# Altium schematic symbol library SchLib_Main.SchLib: 425 symbols (part 4 of 11)
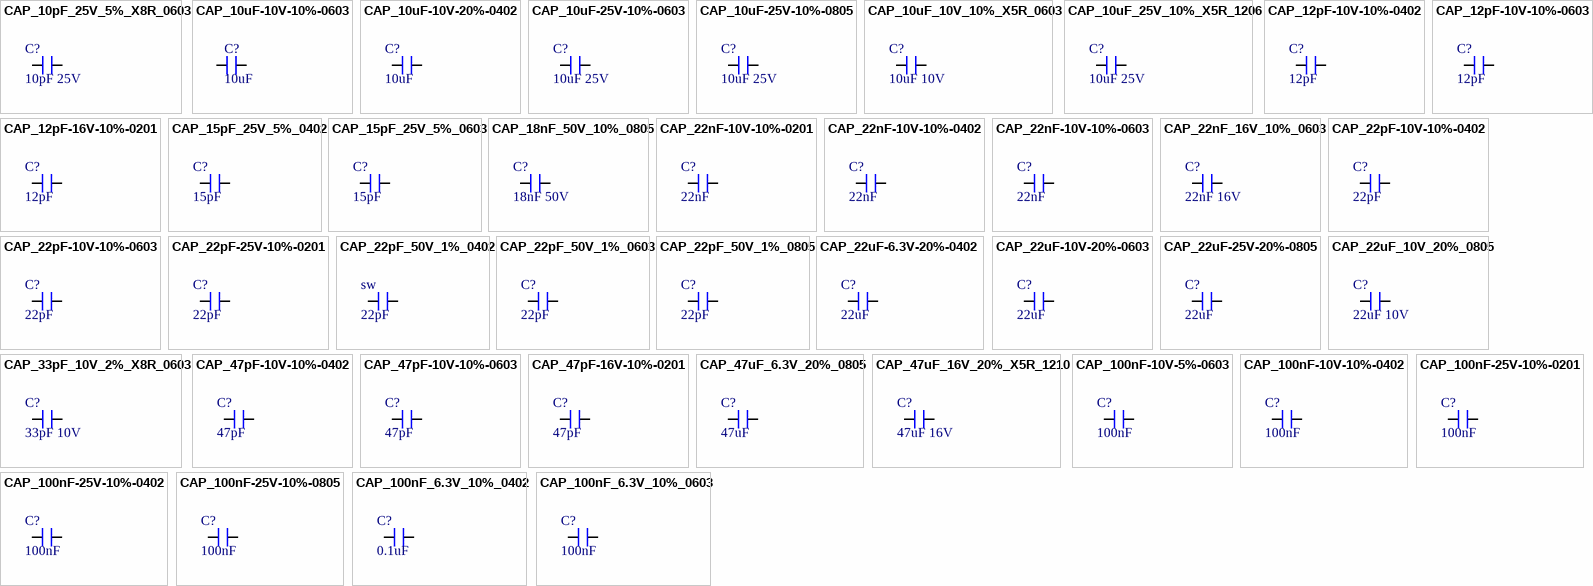
[diagram p19: symbols CAP_10pF_25V_5%_X8R_0603 to CAP_100nF_6.3V_10%_0603]

## CAP_100nF_6.3V_10%_0402
designator C?, comment 0.1uF
Multilayer Ceramic Capacitor, 0.1 uF, 6.3 V, ± 10%, X5R, 0402 [1005 Metric]; Manufacturer 1: KEMET; Manufacturer Part Number 1: C0402C104K9PACTU; Capacitance: 100nF; Voltage Rating (DC): 6.3V; Dissipation Factor: 5%; ComponentLink1URL: http://www.jameco.com/Jameco/Products/ProdDS/1564300.pdf?src-supplier=Jameco; ComponentLink1Description: http://www.jameco.com/Jameco/Products/ProdDS/1564300.pdf?src-supplier=Jameco; ComponentLink2URL: http://components.arrow.com/part/dataview/20550741S6158455N7429?src-supplier=Arrow+Electronics; ComponentLink2Description: http://components.arrow.com/part/dataview/20550741S6158455N7429?src-supplier=Arrow+Electronics; ComponentLink3URL: http://www.farnell.com/datasheets/2740633.pdf?src-supplier=Farnell; ComponentLink3Description: http://www.farnell.com/datasheets/2740633.pdf?src-supplier=Farnell; ComponentLink4URL: http://uk.rs-online.com/webdocs/1443/0900766b81443d87.pdf?src-supplier=Rs; ComponentLink4Description: http://uk.rs-online.com/webdocs/1443/0900766b81443d87.pdf?src-supplier=Rs; ComponentLink5URL: http://uk.rs-online.com/webdocs/1443/0900766b81443d88.pdf?src-supplier=Rs; ComponentLink5Description: http://uk.rs-online.com/webdocs/1443/0900766b81443d88.pdf?src-supplier=Rs; ComponentLink6URL: http://datasheet.octopart.com/C0402C104K9PACTU-KEMET-datasheet-153476653.pdf?src-supplier=Avnet; ComponentLink6Description: http://datasheet.octopart.com/C0402C104K9PACTU-KEMET-datasheet-153476653.pdf?src-supplier=Avnet; ComponentLink7URL: http://capacitoredge.kemet.com/capedge2/DataSheet?pn=C0402C104K9PAC7867&src-supplier=Avnet; ComponentLink7Description: http://capacitoredge.kemet.com/capedge2/DataSheet?pn=C0402C104K9PAC7867&src-supplier=Avnet; ComponentLink8URL: http://datasheet.octopart.com/C0402C104K9PACTU-KEMET-datasheet-153476653.pdf?src-supplier=Rs; ComponentLink8Description: http://datasheet.octopart.com/C0402C104K9PACTU-KEMET-datasheet-153476653.pdf?src-supplier=Rs; ComponentLink9URL: http://datasheet.octopart.com/C0402C104K9PACTU-KEMET-datasheet-153476653.pdf?src-supplier=Mouser; ComponentLink9Description: http://datasheet.octopart.com/C0402C104K9PACTU-KEMET-datasheet-153476653.pdf?src-supplier=Mouser; ComponentLink10URL: http://datasheet.octopart.com/C0402C104K9PACTU-KEMET-datasheet-153476653.pdf?src-supplier=Allied+Electronics; ComponentLink10Description: http://datasheet.octopart.com/C0402C104K9PACTU-KEMET-datasheet-153476653.pdf?src-supplier=Allied+Electronics; ComponentLink11URL: https://datasheet.octopart.com/C0402C104K9PACTU-Kemet-datasheet-27203266.pdf?src-supplier=Newark; ComponentLink11Description: https://datasheet.octopart.com/C0402C104K9PACTU-Kemet-datasheet-27203266.pdf?src-supplier=Newark; ComponentLink12URL: http://www.farnell.com/datasheets/2740633.pdf?src-supplier=Newark; ComponentLink12Description: http://www.farnell.com/datasheets/2740633.pdf?src-supplier=Newark; ComponentLink13URL: http://datasheet.octopart.com/C0402C104K9PACTU-KEMET-datasheet-153476653.pdf?src-supplier=Digi-Key; ComponentLink13Description: http://datasheet.octopart.com/C0402C104K9PACTU-KEMET-datasheet-153476653.pdf?src-supplier=Digi-Key; ComponentLink14URL: http://datasheet.octopart.com/C0402C104K9PACTU-KEMET-datasheet-153476653.pdf?src-supplier=Onlinecomponents.com; ComponentLink14Description: http://datasheet.octopart.com/C0402C104K9PACTU-KEMET-datasheet-153476653.pdf?src-supplier=Onlinecomponents.com; ComponentLink15URL: https://api.kemet.com/component-edge/download/datasheet/C0402C104K9PACTU.pdf?src-supplier=Digi-Key; ComponentLink15Description: https://api.kemet.com/component-edge/download/datasheet/C0402C104K9PACTU.pdf?src-supplier=Digi-Key; ComponentLink16URL: http://www.farnell.com/datasheets/1791935.pdf?src-supplier=Element14; ComponentLink16Description: http://www.farnell.com/datasheets/1791935.pdf?src-supplier=Element14; ComponentLink17URL: http://www.farnell.com/datasheets/2740633.pdf?src-supplier=Element14; ComponentLink17Description: http://www.farnell.com/datasheets/2740633.pdf?src-supplier=Element14; ComponentLink18URL: http://www.kemet.com/kemet/web/homepage/kechome.nsf/vapubfiles/KEM_C1006_X5R_SMD.pdf/$file/KEM_C1006_X5R_SMD.pdf?src-supplier=Element14; ComponentLink18Description: http://www.kemet.com/kemet/web/homepage/kechome.nsf/vapubfiles/KEM_C1006_X5R_SMD.pdf/$file/KEM_C1006_X5R_SMD.pdf?src-supplier=Element14; ComponentLink19URL: http://www.kemet.com/kemet/web/homepage/kechome.nsf/vapubfiles/KEM_C1006_X5R_SMD.pdf/$file/KEM_C1006_X5R_SMD.pdf?src-supplier=Farnell; ComponentLink19Description: http://www.kemet.com/kemet/web/homepage/kechome.nsf/vapubfiles/KEM_C1006_X5R_SMD.pdf/$file/KEM_C1006_X5R_SMD.pdf?src-supplier=Farnell; ComponentLink20URL: http://datasheet.octopart.com/C0402C104K9PACTU-KEMET-datasheet-153476653.pdf?src-supplier=Verical; ComponentLink20Description: http://datasheet.octopart.com/C0402C104K9PACTU-KEMET-datasheet-153476653.pdf?src-supplier=Verical; Supplier 1: Digi-Key; RoHS: Yes; Category: Ceramic Capacitors; Stock 1: 513561; Pricing 1: 1=0.1, 10=0.038, 50=0.0208, 100=0.0169, 500=0.0121, 1000=0.0095, 2500=0.00864, 5000=0.00795 (USD); Mount: Surface Mount,PCB; Case/Package: 0402; Dielectric Material: Ceramic; Case Code (Imperial): 0402; Case Code (Metric): 1005; Min Operating Temperature: -55°C; Max Operating Temperature: 85°C; Tolerance: 10%; Packaging: Tape and Reel; Dielectric: X5R; Package Quantity: 10000; Series: C0402C; Voltage Rating: 6.3V; Termination: SMD/SMT; Construction: Flat; Voltage: 6.3V; Length: 1mm; Width: 0.5mm; Height: 0.5mm; Depth: 0.5mm; Lead Pitch: 0.3mm; Radiation Hardening: No; Lead Free: Lead Free; Reach SVHC Compliant: No; RoHS Compliant: Yes; Supplier Part Number 1: 399-C0402C104K9PAC7867DKR-ND
footprint CAP_0402 (Chip Capacitor 0402, 2-Leads, Body, IPC Medium Density)
pins: 1, 2

## CAP_100nF_6.3V_10%_0603
designator C?, comment 100nF
Multilayer Ceramic Capacitor, 0.1 uF, 6.3 V, ± 10%, X7R, 0603 [1608 Metric]; Manufacturer: KEMET; Manufacturer Part Number: C0603C104K9RACTU; Voltage Rating: 6.3V; Dissipation Factor: 5%; Supplier 1: Mouser; RoHS: Yes; Category: Ceramic Capacitors; Stock 1: 222945; Pricing 1: 1=0.1, 10=0.086, 50=0.086, 100=0.044, 1000=0.027, 10000=0.021 (USD); Mount: Surface Mount; Case/Package: 0603; Case Code (Imperial): 0603; Case Code (Metric): 1608; Dielectric Material: Ceramic; Min Operating Temperature: -55°C; Max Operating Temperature: 125°C; Capacitance: 100nF; Tolerance: 10%; Dielectric: X7R; Package Quantity: 4000; Packaging: Tape and Reel; Voltage Rating (DC): 6.3V; Termination: SMD/SMT; Series: C; Construction: Flat; Length: 1.6mm; Width: 0.8mm; Height: 0.8mm; Thickness: 0.034inch; Depth: 0.8mm; Radiation Hardening: No; RoHS Compliant: Yes; ComponentLink1URL: https://datasheet.ciiva.com/13371/kem-c1002-x7r-smd-357932-13371879.pdf?src-supplier=Mouser; ComponentLink1Description: https://datasheet.ciiva.com/13371/kem-c1002-x7r-smd-357932-13371879.pdf?src-supplier=Mouser; Supplier 2: Digi-Key; Manufacturer 2: KEMET; Manufacturer Part Number 2: C0603C104K9RACTU; Stock 2: 54491; Pricing 2: 1=0.13, 10=0.096, 50=0.0544, 100=0.0451, 500=0.03162, 1000=0.02618 (USD); Supplier 3: Mouser; Manufacturer 3: KEMET; Manufacturer Part Number 3: C0603C104K9RACTU; Stock 3: 222663; Pricing 3: 1=0.13, 10=0.055, 50=0.055, 100=0.032, 1000=0.027, 10000=0.02 (USD); Supplier Part Number 3: 80-C0603C104K9R
footprint CAP_0603 (Chip Capacitor 0603, 2-Leads, Body 1.68x0.88mm, IPC Medium Density)
pins: 1, 2

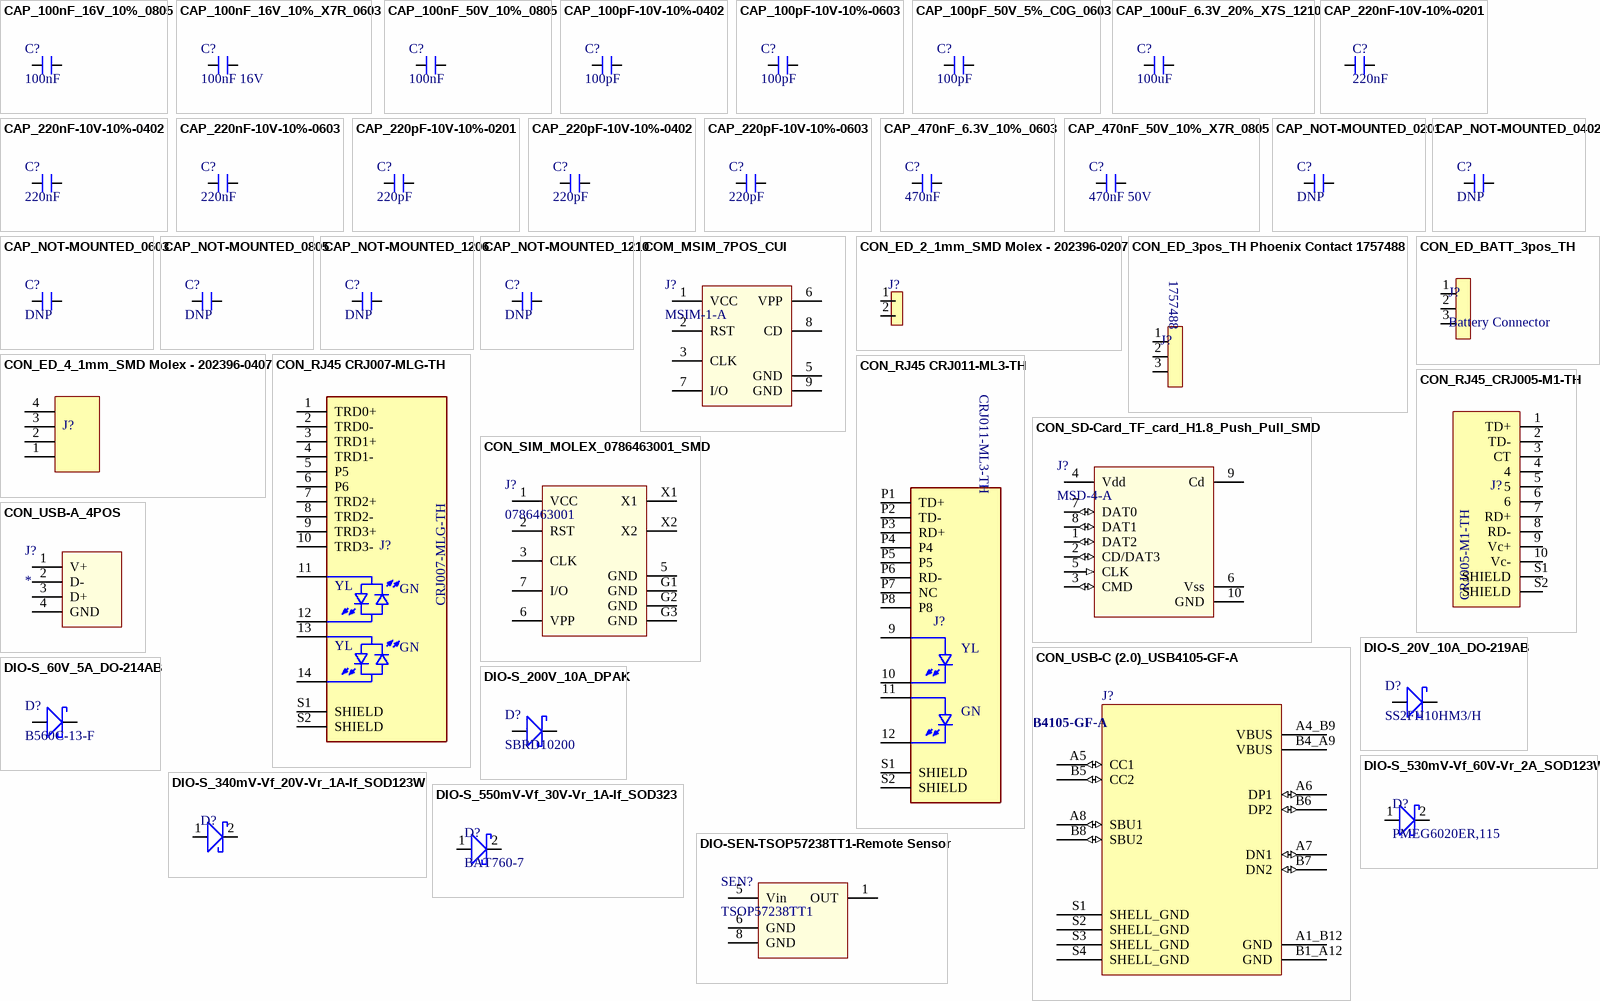
[diagram p2: symbols CAP_100nF_16V_10%_0805 to DIO-SEN-TSOP57238TT1-Remote Sensor]

## CAP_100nF_16V_10%_0805
designator C?, comment 100nF
Multilayer Ceramic Capacitor, 0.1 uF, 16 V, ± 10%, X7R, 0805 [2012 Metric]; Manufacturer: KEMET; Manufacturer Part Number: C0805C104K4RACTU; Voltage Rating: 16V; Supplier 1: Mouser; RoHS: Yes; Category: Ceramic Capacitors; Stock 1: 90803; Pricing 1: 1=0.15, 10=0.078, 50=0.078, 100=0.044, 1000=0.03, 10000=0.023 (USD); Mount: Surface Mount,PCB; Case/Package: 0805; Number of Pins: 2; Case Code (Imperial): 0805; Case Code (Metric): 2012; Contact Plating: Tin,Matte; Dielectric Material: Ceramic; Min Operating Temperature: -55°C; Max Operating Temperature: 125°C; Capacitance: 100nF; Packaging: Tape and Reel; Package Quantity: 4000; Tolerance: 10%; Voltage Rating (DC): 16V; Dielectric: X7R; Termination: SMD/SMT; Voltage: 16V; Series: SMD Comm X7R; Construction: Flat; Length: 2mm; Height: 0.9mm; Lead Pitch: 0.75mm; Depth: 1.25mm; Radiation Hardening: No; Reach SVHC Compliant: No; RoHS Compliant: Yes; ComponentLink1URL: https://datasheet.ciiva.com/46443/1851736-46443711.pdf?src-supplier=Element14; ComponentLink1Description: https://datasheet.ciiva.com/46443/1851736-46443711.pdf?src-supplier=Element14; ComponentLink2URL: https://datasheet.ciiva.com/46443/1851736-46443710.pdf?src-supplier=Element14; ComponentLink2Description: https://datasheet.ciiva.com/46443/1851736-46443710.pdf?src-supplier=Element14; Supplier 2: Digi-Key; Manufacturer 2: KEMET; Manufacturer Part Number 2: C0805C104K4RACTU; Stock 2: 179111; Pricing 2: 1=0.18, 10=0.13, 50=0.0736, 100=0.061, 500=0.04274, 1000=0.03539 (USD); Supplier 3: Mouser; Manufacturer 3: KEMET; Manufacturer Part Number 3: C0805C104K4RACTU; Stock 3: 60653; Pricing 3: 1=0.17, 10=0.078, 50=0.078, 100=0.045, 1000=0.032, 10000=0.023 (USD); Supplier Part Number 3: 80-C0805C104K4R
footprint CAP_0805 (Chip Capacitor, 2-Leads, Body 2.10x1.35mm, IPC Medium Density)
pins: 1, 2

## CAP_100nF_16V_10%_X7R_0603
designator C?, comment 100nF 16V
Ceramic Capacitor, Multilayer, Ceramic, 16V, 10% +Tol, 10% -Tol, X7R, 15% TC, 0.1uF, Surface Mount, 0603; Manufacturer: KEMET; Manufacturer Part Number: C0603C104K4RACTU; Multilayer: Yes; Supplier: Digi-Key; Supplier Part Number: 399-C0603C104K4RAC7867DKR-ND; RoHS: Yes; Category: Ceramic Capacitors; Stock: 507245; Pricing: 1=0.1, 10=0.069, 50=0.0394, 100=0.0305, 500=0.02298, 1000=0.01805 (USD); Mounting Technology: Surface Mount; Pins: 2; Dielectric Material: Ceramic; Package Shape: Rectangular; Case/Package: 0603; Terminal Finish: Nickel; Min Operating Temperature: -55°C; Max Operating Temperature: 125°C; JESD-609 Code: e3; Value: 100nF; Capacitor Type: Ceramic; Tolerance  (fill in as +-): 10%; Package Style: SMTMeter; Packaging: Tape and Reel; Tolerance (fill in as +-): 10%; Rated DC Voltage (URdc): 16V; Temperature Characteristics Code: X7R; Termination: Wraparound; Length: 1.6mm; Width: 0.8mm; Height: 0.8mm; Reach SVHC Compliant: Yes; RoHS Compliant: Yes; ComponentLink1URL: https://datasheet.ciiva.com:443/pdfs/VipMasterIC/IC/KEME/KEME-S-A0008991654/KEME-S-A0008991654-1.pdf?src-supplier=IHS+Markit; ComponentLink1Description: https://datasheet.ciiva.com:443/pdfs/VipMasterIC/IC/KEME/KEME-S-A0008991654/KEME-S-A0008991654-1.pdf?src-supplier=IHS+Markit; ComponentLink2URL: https://datasheet.ciiva.com/22749/kem-c1002-x7r-smd-22749657.pdf?src-supplier=Element14; ComponentLink2Description: https://datasheet.ciiva.com/22749/kem-c1002-x7r-smd-22749657.pdf?src-supplier=Element14; ComponentLink3URL: https://datasheet.ciiva.com/14589/70095383-14589014.pdf?src-supplier=Allied+Electronics; ComponentLink3Description: https://datasheet.ciiva.com/14589/70095383-14589014.pdf?src-supplier=Allied+Electronics; ComponentLink4URL: https://datasheet.ciiva.com/5413/kem-c1002-x7r-smd-5413791.pdf?src-supplier=Mouser; ComponentLink4Description: https://datasheet.ciiva.com/5413/kem-c1002-x7r-smd-5413791.pdf?src-supplier=Mouser
footprint CAP_0603
pins: 1, 2

## CAP_100nF_50V_10%_0805
designator C?, comment 100nF
SMD Comm X7R 0805 (2012Metric) Ceramic Capacitor 0.079Lx0.049W 2.00mmx1.25mm X7R ±10% 0.1muF; Manufacturer: KEMET; Manufacturer Part Number: C0805C104K5RAC7210; Voltage Rating: 50V; Supplier 1: Mouser; RoHS: Yes; Category: Ceramic Capacitors; Stock 1: 173866; Pricing 1: 1=0.13, 10=0.055, 50=0.055, 100=0.032, 1000=0.024, 10000=0.024 (USD); Mount: Surface Mount; Case/Package: 0805; Case Code (Metric): 2012; Case Code (Imperial): 0805; Dielectric Material: Ceramic; Min Operating Temperature: -55°C; Max Operating Temperature: 125°C; Tolerance: 10%; Capacitance: 100nF; Dielectric: X7R; Packaging: Tape and Reel; Package Quantity: 15000; Voltage Rating (DC): 50V; Termination: SMD/SMT; Series: C; Construction: Flat; Length: 2mm; Width: 0.049inch; Height: 0.9mm; Depth: 1.25mm; Lead Pitch: 0.75mm; Thickness: 0.035inch; Radiation Hardening: No; RoHS Compliant: Yes; ComponentLink1URL: http://www.farnell.com/datasheets/2750461.pdf?src-supplier=Farnell; ComponentLink1Description: http://www.farnell.com/datasheets/2750461.pdf?src-supplier=Farnell; ComponentLink2URL: http://www.mouser.com/ds/2/212/KEM_C1002_X7R_SMD-1102033.pdf?src-supplier=Mouser; ComponentLink2Description: http://www.mouser.com/ds/2/212/KEM_C1002_X7R_SMD-1102033.pdf?src-supplier=Mouser; ComponentLink3URL: http://components.arrow.com/part/dataview/1379060S8109168N7429?src-supplier=Arrow+Electronics; ComponentLink3Description: http://components.arrow.com/part/dataview/1379060S8109168N7429?src-supplier=Arrow+Electronics; ComponentLink4URL: http://capacitoredge.kemet.com/capedge2/DataSheet/Datasheet-C0805C104K5RAC7210.pdf?pn=C0805C104K5RAC7210&src-supplier=Avnet; ComponentLink4Description: http://capacitoredge.kemet.com/capedge2/DataSheet/Datasheet-C0805C104K5RAC7210.pdf?pn=C0805C104K5RAC7210&src-supplier=Avnet; ComponentLink5URL: http://www.farnell.com/datasheets/2750461.pdf?src-supplier=Newark; ComponentLink5Description: http://www.farnell.com/datasheets/2750461.pdf?src-supplier=Newark; ComponentLink6URL: http://www.farnell.com/datasheets/2750461.pdf?src-supplier=Element14; ComponentLink6Description: http://www.farnell.com/datasheets/2750461.pdf?src-supplier=Element14; ComponentLink7URL: https://api.kemet.com/component-edge/download/datasheet/C0805C104K5RAC7210.pdf?src-supplier=Digi-Key; ComponentLink7Description: https://api.kemet.com/component-edge/download/datasheet/C0805C104K5RAC7210.pdf?src-supplier=Digi-Key; ComponentLink8URL: https://www.verical.com/server-webapp/html/getDatasheet?partID=114317&src-supplier=Verical; ComponentLink8Description: https://www.verical.com/server-webapp/html/getDatasheet?partID=114317&src-supplier=Verical; ComponentLink9URL: http://www.kemet.com/kemet/web/homepage/kechome.nsf/weben/C4DA2DA1D1C9D3C3CA2570A50016092D/$file/KEM_C1002_X7R_SMD.pdf; ComponentLink9Description: http://www.kemet.com/kemet/web/homepage/kechome.nsf/weben/C4DA2DA1D1C9D3C3CA2570A50016092D/$file/KEM_C1002_X7R_SMD.pdf; ComponentLink10URL: https://datasheet.octopart.com/C0805C104K5RAC7210-KEMET-datasheet-130259742.pdf?src-supplier=TME; ComponentLink10Description: https://datasheet.octopart.com/C0805C104K5RAC7210-KEMET-datasheet-130259742.pdf?src-supplier=TME; ComponentLink11URL: https://datasheet.octopart.com/C0805C104K5RAC7210-KEMET-datasheet-37550250.pdf?src-supplier=Electro+Sonic; ComponentLink11Description: https://datasheet.octopart.com/C0805C104K5RAC7210-KEMET-datasheet-37550250.pdf?src-supplier=Electro+Sonic; Supplier 2: Digi-Key; Manufacturer 2: KEMET; Manufacturer Part Number 2: C0805C104K5RAC7210; Stock 2: 1684433; Pricing 2: 1=0.13, 10=0.092, 50=0.052, 100=0.0431, 500=0.03022, 1000=0.02502, 2500=0.02328, 5000=0.0213 (USD); Supplier 3: Mouser; Manufacturer 3: KEMET; Manufacturer Part Number 3: C0805C104K5RAC7210; Stock 3: 170881; Pricing 3: 1=0.13, 10=0.055, 50=0.055, 100=0.032, 1000=0.024, 10000=0.018 (USD); Supplier Part Number 3: 80-C0805C104K5R7210
footprint CAP_0805 (Chip Capacitor, 2-Leads, Body 2.10x1.35mm, IPC Medium Density)
pins: 1, 2

## CAP_100pF-10V-10%-0402
designator C?, comment 100pF
Cap Ceramic 100pF 10V X7R 10% SMD 0402 125°C Paper T/R; Manufacturer: KEMET; Manufacturer Part Number: C0402C101K8RAC7867; Case/Package: 0402; Supplier-1: Digikey; Supplier 1: Digi-Key; Manufacturer 1: KEMET; Manufacturer Part Number 1: C0402C101K8RAC7867; RoHS: Yes; Category: Ceramic Capacitors; Stock 1: 764202; Pricing 1: 1=0.15, 10=0.11, 50=0.0624, 100=0.0518, 500=0.0363, 1000=0.03006, 2500=0.02798, 5000=0.02559 (USD); Mount: Surface Mount; Case Code (Imperial): 0402; Case Code (Metric): 1005; Min Operating Temperature: -55°C; Max Operating Temperature: 125°C; Packaging: Cut Tape; Capacitance: 100pF; Tolerance: 10%; Voltage Rating: 10V; Series: C; RoHS Compliant: Yes; ComponentLink1URL: https://search.kemet.com/component-edge/download/datasheet/C0402C101K8RAC7867.pdf?src-supplier=Digi-Key; ComponentLink1Description: https://search.kemet.com/component-edge/download/datasheet/C0402C101K8RAC7867.pdf?src-supplier=Digi-Key; ComponentLink2URL: https://api.kemet.com/component-edge/download/datasheet/C0402C101K8RAC7867.pdf?src-supplier=Digi-Key; ComponentLink2Description: https://api.kemet.com/component-edge/download/datasheet/C0402C101K8RAC7867.pdf?src-supplier=Digi-Key; Supplier Part Number 1: 399-14866-1-ND
footprint CAP_0402 (Capacitor)
pins: 1, 2

## CAP_100pF-10V-10%-0603
designator C?, comment 100pF
Cap Ceramic 100pF 10V X7R 10% Pad SMD 0603 125C T/R; Manufacturer: AVX Corporation; Manufacturer Part Number: 0603ZC101KAT2A; Manufacturer 1: Kyocera AVX; Case/Package: 0603; Supplier-1: Digikey; Supplier 1: Mouser; Manufacturer Part Number 1: 0603ZC101KAT2A; RoHS: Yes; Category: Ceramic Capacitors; Stock 1: 11762; Pricing 1: 1=0.19, 10=0.087, 50=0.087, 100=0.05, 1000=0.04, 10000=0.035 (USD); ComponentLink1URL: https://datasheet.ciiva.com/5417/cx7r-5417999.pdf?src-supplier=Mouser; ComponentLink1Description: https://datasheet.ciiva.com/5417/cx7r-5417999.pdf?src-supplier=Mouser; ComponentLink2URL: https://datasheet.ciiva.com/204/cx7r-204551.pdf?src-supplier=Digi-Key; ComponentLink2Description: https://datasheet.ciiva.com/204/cx7r-204551.pdf?src-supplier=Digi-Key; Supplier Part Number 1: 581-0603ZC101KAT2A
footprint CAP_0603 (Capacitor)
pins: 1, 2

## CAP_100pF_50V_5%_C0G_0603
designator C?, comment 100pF
Ceramic Capacitor, Multilayer, Ceramic, 50V, 5% +Tol, 5% -Tol, C0G, 30ppm/Cel TC, 0.0001uF, Surface Mount, 0603; Manufacturer: KEMET; Manufacturer Part Number: C0603C101J5GACTU; Multilayer: Yes; Supplier: Digikey; Supplier Part Number: 399-C0603C101J5GAC7867CT-ND; RoHS: Yes; Category: Ceramic Capacitors; Stock: 200424; Pricing: 1=0.1, 10=0.073, 50=0.0418, 100=0.0325, 500=0.02442, 1000=0.01919 (USD); Mounting Technology: Surface Mount; Pins: 2; Dielectric Material: Ceramic; Package Shape: Rectangular; Case/Package: 0603; Terminal Finish: Nickel; Min Operating Temperature: -55°C; Max Operating Temperature: 125°C; JESD-609 Code: e3; Value: 100pF; Capacitor Type: Ceramic; Tolerance  (fill in as +-): 5%; Package Style: SMTMeter; Packaging: Tape and Reel; Tolerance (fill in as +-): 5%; Rated DC Voltage (URdc): 50V; Temperature Characteristics Code: C0G; Termination: Wraparound; Length: 1.6mm; Width: 0.8mm; Height: 0.8mm; Reach SVHC Compliant: Yes; RoHS Compliant: Yes; ComponentLink1URL: https://datasheet.ciiva.com:443/pdfs/VipMasterIC/IC/KEME/KEME-S-A0005605168/KEME-S-A0005605168-1.pdf?src-supplier=IHS+Markit; ComponentLink1Description: https://datasheet.ciiva.com:443/pdfs/VipMasterIC/IC/KEME/KEME-S-A0005605168/KEME-S-A0005605168-1.pdf?src-supplier=IHS+Markit; ComponentLink2URL: https://www.distrelec.biz/Web/Downloads/_t/ds/KEM_C1003_C0G_SMD_eng_tds.pdf?mime=application%2Fpdf&src-supplier=Distrelec; ComponentLink2Description: https://www.distrelec.biz/Web/Downloads/_t/ds/KEM_C1003_C0G_SMD_eng_tds.pdf?mime=application%2Fpdf&src-supplier=Distrelec; ComponentLink3URL: http://www.farnell.com/datasheets/2740958.pdf?src-supplier=Farnell; ComponentLink3Description: http://www.farnell.com/datasheets/2740958.pdf?src-supplier=Farnell; ComponentLink4URL: http://uk.rs-online.com/webdocs/1528/0900766b81528c98.pdf?src-supplier=Rs; ComponentLink4Description: http://uk.rs-online.com/webdocs/1528/0900766b81528c98.pdf?src-supplier=Rs
footprint CAP_0603
pins: 1, 2

## CAP_100uF_6.3V_20%_X7S_1210
designator C?, comment 100uF
Ceramic Capacitor, Multilayer, Ceramic, 6.3V, 20% +Tol, 20% -Tol, X7S, 22% TC, 100uF, Surface Mount, 1210; Manufacturer: Murata; Manufacturer Part Number: GRM32EC70J107ME15K; Supplier: Mouser; Supplier Part Number: 81-GRM32EC70J107ME5K; RoHS: No; Category: Ceramic Capacitors; Stock: 18465; Pricing: 1=0.61, 10=0.339, 50=0.339, 100=0.275, 1000=0.186, 10000=0.15 (USD); RoHS Compliant: Yes; ComponentLink1URL: https://datasheet.octopart.com/GRM32EC70J107ME15K-Murata-datasheet-149523525.pdf?src-supplier=Newark; ComponentLink1Description: https://datasheet.octopart.com/GRM32EC70J107ME15K-Murata-datasheet-149523525.pdf?src-supplier=Newark; ComponentLink2URL: https://datasheet.octopart.com/GRM32EC70J107ME15K-Murata-datasheet-165579666.pdf?src-supplier=TME; ComponentLink2Description: https://datasheet.octopart.com/GRM32EC70J107ME15K-Murata-datasheet-165579666.pdf?src-supplier=TME
footprint CAP_1210
pins: 1, 2

## CAP_220nF-10V-10%-0201
designator C?, comment 220nF
Multilayer Ceramic Capacitor, 0.22 uF, 10 V, ± 10%, X5R, 0201 [0603 Metric]; Manufacturer: Samsung Electro-Mechanics; Manufacturer Part Number: CL03A224KP3NNNC; Manufacturer 1: Samsung; Case/Package: 0201; Supplier-1: Digikey; Supplier 1: Digi-Key; Manufacturer Part Number 1: CL03A224KP3NNNC; RoHS: Yes; Category: Ceramic Capacitors; Stock 1: 467305; Pricing 1: 1=0.11, 10=0.075, 50=0.0428, 100=0.0355, 500=0.02486, 1000=0.02058, 2500=0.01916, 5000=0.01752 (USD); ComponentLink1URL: https://datasheet.ciiva.com/25728/cl03a224kp3nnnc-25728952.pdf?src-supplier=Digi-Key; ComponentLink1Description: https://datasheet.ciiva.com/25728/cl03a224kp3nnnc-25728952.pdf?src-supplier=Digi-Key; ComponentLink2URL: https://datasheet.ciiva.com/26920/getdatasheetpartid-756454-26920164.pdf?src-supplier=Verical; ComponentLink2Description: https://datasheet.ciiva.com/26920/getdatasheetpartid-756454-26920164.pdf?src-supplier=Verical; Supplier Part Number 1: 1276-1331-1-ND
footprint CAP_0201
pins: 1, 2

## CAP_220nF-10V-10%-0402
designator C?, comment 220nF
Multilayer Ceramic Capacitor, 0.22 uF, 10 V, ± 10%, X7R, 0402 [1005 Metric]; Manufacturer: Samsung Electro-Mechanics; Manufacturer Part Number: CL05B224KP5NNNC; Manufacturer 1: Samsung; Case/Package: 0402; Supplier-1: Digikey; Supplier 1: Digi-Key; Manufacturer Part Number 1: CL05B224KP5NNNC; RoHS: Yes; Category: Ceramic Capacitors; Stock 1: 1830060; Pricing 1: 1=0.1, 10=0.037, 50=0.0204, 100=0.0166, 500=0.01188, 1000=0.00933, 2500=0.00848, 5000=0.00781 (USD); ComponentLink1URL: https://datasheet.ciiva.com/25733/cl05b224kp5nnnc-25733649.pdf?src-supplier=Digi-Key; ComponentLink1Description: https://datasheet.ciiva.com/25733/cl05b224kp5nnnc-25733649.pdf?src-supplier=Digi-Key; ComponentLink2URL: https://datasheet.ciiva.com/26838/getdatasheetpartid-455373-26838229.pdf?src-supplier=Verical; ComponentLink2Description: https://datasheet.ciiva.com/26838/getdatasheetpartid-455373-26838229.pdf?src-supplier=Verical; Supplier Part Number 1: 1276-1539-1-ND
footprint CAP_0402 (Capacitor)
pins: 1, 2

## CAP_220nF-10V-10%-0603
designator C?, comment 220nF
Cap Ceramic 0.22uF 10V X7R 10% SMD 0603 125C T/R; Manufacturer: Yageo; Manufacturer Part Number: CC0603KRX7R6BB224; Case/Package: 0603; Supplier-1: Digikey; Supplier 1: Digi-Key; Manufacturer 1: Yageo; Manufacturer Part Number 1: CC0603KRX7R6BB224; RoHS: Yes; Category: Ceramic Capacitors; Stock 1: 40426; Pricing 1: 1=0.1, 10=0.061, 50=0.0334, 100=0.0272, 500=0.01944, 1000=0.01528 (USD); ComponentLink1URL: https://datasheet.ciiva.com/11786/0900766b80ce67ed-11786433.pdf?src-supplier=Rs; ComponentLink1Description: https://datasheet.ciiva.com/11786/0900766b80ce67ed-11786433.pdf?src-supplier=Rs; ComponentLink2URL: https://datasheet.ciiva.com/15189/getdatasheetpartid-93657-15189159.pdf?src-supplier=Verical; ComponentLink2Description: https://datasheet.ciiva.com/15189/getdatasheetpartid-93657-15189159.pdf?src-supplier=Verical; ComponentLink3URL: https://datasheet.ciiva.com/144/mlccorderingcode-144664.pdf?src-supplier=Digi-Key; ComponentLink3Description: https://datasheet.ciiva.com/144/mlccorderingcode-144664.pdf?src-supplier=Digi-Key; ComponentLink4URL: https://datasheet.ciiva.com/144/mlccorderingcode-144665.pdf?src-supplier=Digi-Key; ComponentLink4Description: https://datasheet.ciiva.com/144/mlccorderingcode-144665.pdf?src-supplier=Digi-Key; ComponentLink5URL: https://datasheet.ciiva.com/144/mlccorderingcode-144666.pdf?src-supplier=Digi-Key; ComponentLink5Description: https://datasheet.ciiva.com/144/mlccorderingcode-144666.pdf?src-supplier=Digi-Key; ComponentLink6URL: https://datasheet.ciiva.com/11464/upy-gphc-x7r-6-3v-to-50v-8-11464734.pdf?src-supplier=Avnet; ComponentLink6Description: https://datasheet.ciiva.com/11464/upy-gphc-x7r-6-3v-to-50v-8-11464734.pdf?src-supplier=Avnet; ComponentLink7URL: https://datasheet.ciiva.com/8033/1489800-8033791.pdf?src-supplier=Element14; ComponentLink7Description: https://datasheet.ciiva.com/8033/1489800-8033791.pdf?src-supplier=Element14; ComponentLink8URL: https://datasheet.ciiva.com/7978/1489800-7978173.pdf?src-supplier=Element14; ComponentLink8Description: https://datasheet.ciiva.com/7978/1489800-7978173.pdf?src-supplier=Element14; Supplier Part Number 1: 311-1346-1-ND
footprint CAP_0603 (Capacitor)
pins: 1, 2

## CAP_220pF-10V-10%-0201
designator C?, comment 220pF
Cap Ceramic 220pF 10V X7R 10% SMD 0402 125°C Paper T/R; Manufacturer: KEMET; Manufacturer Part Number: C0402C221K8RAC7867; Case/Package: 0201; Supplier-1: Digikey; Supplier 1: Digi-Key; Manufacturer 1: KEMET; Manufacturer Part Number 1: C0402C221K8RAC7867; RoHS: Yes; Category: Ceramic Capacitors; Stock 1: 3931; Pricing 1: 1=0.32, 10=0.222, 50=0.1556, 100=0.1333, 500=0.1, 1000=0.08445, 2500=0.08001, 5000=0.07556 (USD); ComponentLink1URL: https://api.kemet.com/component-edge/download/datasheet/C0402C221K8RACTU.pdf?src-supplier=Digi-Key; ComponentLink1Description: https://api.kemet.com/component-edge/download/datasheet/C0402C221K8RACTU.pdf?src-supplier=Digi-Key; ComponentLink2URL: http://capacitoredge.kemet.com/capedge2/DataSheet?pn=C0402C221K8RAC7867; ComponentLink2Description: http://capacitoredge.kemet.com/capedge2/DataSheet?pn=C0402C221K8RAC7867; Supplier Part Number 1: 399-14432-1-ND
footprint CAP_0201
pins: 1, 2

## CAP_220pF-10V-10%-0402
designator C?, comment 220pF
Cap Ceramic 220pF 10V X7R 10% SMD 0402 125°C Paper T/R; Manufacturer: KEMET; Manufacturer Part Number: C0402C221K8RAC7867; Case/Package: 0402; Supplier-1: Digikey; Supplier 1: Digi-Key; Manufacturer 1: KEMET; Manufacturer Part Number 1: C0402C221K8RAC7867; RoHS: Yes; Category: Ceramic Capacitors; Stock 1: 3931; Pricing 1: 1=0.32, 10=0.222, 50=0.1556, 100=0.1333, 500=0.1, 1000=0.08445, 2500=0.08001, 5000=0.07556 (USD); ComponentLink1URL: https://api.kemet.com/component-edge/download/datasheet/C0402C221K8RACTU.pdf?src-supplier=Digi-Key; ComponentLink1Description: https://api.kemet.com/component-edge/download/datasheet/C0402C221K8RACTU.pdf?src-supplier=Digi-Key; ComponentLink2URL: http://capacitoredge.kemet.com/capedge2/DataSheet?pn=C0402C221K8RAC7867; ComponentLink2Description: http://capacitoredge.kemet.com/capedge2/DataSheet?pn=C0402C221K8RAC7867; Supplier Part Number 1: 399-14432-1-ND
footprint CAP_0402 (Capacitor)
pins: 1, 2

## CAP_220pF-10V-10%-0603
designator C?, comment 220pF
Cap Ceramic 220pF 10V X7R 10% SMD 0603 125°C Paper T/R; Manufacturer: KEMET; Manufacturer Part Number: C0603C221K8RAC7867; Case/Package: 0603; Supplier-1: Digikey; Supplier 1: Digi-Key; Manufacturer 1: KEMET; Manufacturer Part Number 1: C0603C221K8RAC7867; RoHS: Yes; Category: Ceramic Capacitors; Stock 1: 8819; Pricing 1: 1=0.27, 10=0.187, 50=0.1248, 100=0.1061, 500=0.07488, 1000=0.06552 (USD); Mount: Surface Mount; Dielectric Material: Ceramic; Min Operating Temperature: -55°C; Max Operating Temperature: 125°C; Capacitance: 220pF; Tolerance: 10%; Dielectric: X7R; Voltage Rating (DC): 10V; Series: SMD Comm X7R; Voltage Rating: 10V; Construction: Flat; Length: 1.6mm; Height: 0.8mm; Depth: 0.8mm; Radiation Hardening: No; RoHS Compliant: Yes; ComponentLink1URL: https://api.kemet.com/component-edge/download/datasheet/C0603C221K8RACTU.pdf?src-supplier=Digi-Key; ComponentLink1Description: https://api.kemet.com/component-edge/download/datasheet/C0603C221K8RACTU.pdf?src-supplier=Digi-Key; ComponentLink2URL: http://capacitoredge.kemet.com/capedge2/DataSheet?pn=C0603C221K8RACTU&src-supplier=Avnet; ComponentLink2Description: http://capacitoredge.kemet.com/capedge2/DataSheet?pn=C0603C221K8RACTU&src-supplier=Avnet; ComponentLink3URL: http://capacitoredge.kemet.com/capedge2/DataSheet?pn=C0603C221K8RACTU; ComponentLink3Description: http://capacitoredge.kemet.com/capedge2/DataSheet?pn=C0603C221K8RACTU; Supplier Part Number 1: 399-15379-1-ND
footprint CAP_0603 (Capacitor)
pins: 1, 2

## CAP_470nF_6.3V_10%_0603
designator C?, comment 470nF
Multilayer Ceramic Capacitor, 0.47 uF, 6.3 V, ± 10%, X5R, 0603 [1608 Metric]; Manufacturer: KEMET; Manufacturer Part Number: C0603C474K9PACTU; Voltage Rating: 6.3V; Dissipation Factor: 5%; Supplier 1: Mouser; RoHS: Yes; Category: Ceramic Capacitors; Stock 1: 21236; Pricing 1: 1=0.16, 10=0.094, 50=0.094, 100=0.055, 1000=0.034, 10000=0.022 (USD); Mount: Surface Mount; Case/Package: 0603; Case Code (Imperial): 0603; Case Code (Metric): 1608; Dielectric Material: Ceramic; Min Operating Temperature: -55°C; Max Operating Temperature: 85°C; Capacitance: 470nF; Tolerance: 10%; Dielectric: X5R; Package Quantity: 1; Packaging: Tape and Reel; Voltage Rating (DC): 6.3V; Termination: SMD/SMT; Series: C; Construction: Flat; Length: 1.6mm; Width: 0.031inch; Height: 0.8mm; Lead Pitch: 0.7mm; Thickness: 0.034inch; Depth: 0.8mm; Lead Free: Lead Free; RoHS Compliant: Yes; ComponentLink1URL: http://www.farnell.com/datasheets/2748219.pdf?src-supplier=Farnell; ComponentLink1Description: http://www.farnell.com/datasheets/2748219.pdf?src-supplier=Farnell; ComponentLink2URL: http://www.mouser.com/ds/2/212/KEM_C1006_X5R_SMD-1103249.pdf?src-supplier=Mouser; ComponentLink2Description: http://www.mouser.com/ds/2/212/KEM_C1006_X5R_SMD-1103249.pdf?src-supplier=Mouser; ComponentLink3URL: http://components.arrow.com/part/dataview/40911673S6836922N7429?src-supplier=Arrow+Electronics; ComponentLink3Description: http://components.arrow.com/part/dataview/40911673S6836922N7429?src-supplier=Arrow+Electronics; ComponentLink4URL: http://www.farnell.com/datasheets/2748219.pdf?src-supplier=Newark; ComponentLink4Description: http://www.farnell.com/datasheets/2748219.pdf?src-supplier=Newark; ComponentLink5URL: https://datasheet.octopart.com/C0603C474K9PACTU-KEMET-datasheet-83561846.pdf?src-supplier=Newark; ComponentLink5Description: https://datasheet.octopart.com/C0603C474K9PACTU-KEMET-datasheet-83561846.pdf?src-supplier=Newark; ComponentLink6URL: https://api.kemet.com/component-edge/download/datasheet/C0603C474K9PACTU.pdf?src-supplier=Digi-Key; ComponentLink6Description: https://api.kemet.com/component-edge/download/datasheet/C0603C474K9PACTU.pdf?src-supplier=Digi-Key; ComponentLink7URL: https://datasheet.octopart.com/C0603C474K9PACTU-Kemet-datasheet-62307647.pdf?src-supplier=Element14; ComponentLink7Description: https://datasheet.octopart.com/C0603C474K9PACTU-Kemet-datasheet-62307647.pdf?src-supplier=Element14; ComponentLink8URL: https://datasheet.octopart.com/C0603C474K9PACTU-KEMET-datasheet-149522163.pdf?src-supplier=Farnell; ComponentLink8Description: https://datasheet.octopart.com/C0603C474K9PACTU-KEMET-datasheet-149522163.pdf?src-supplier=Farnell; ComponentLink9URL: https://datasheet.octopart.com/C0603C474K9PACTU-KEMET-datasheet-153476653.pdf?src-supplier=Electro+Sonic; ComponentLink9Description: https://datasheet.octopart.com/C0603C474K9PACTU-KEMET-datasheet-153476653.pdf?src-supplier=Electro+Sonic; Supplier 2: Mouser; Stock 2: 43893; Pricing 2: 1=0.15, 10=0.088, 50=0.088, 100=0.057, 1000=0.057, 10000=0.046 (USD); Radiation Hardening: No; Reach SVHC Compliant: No; ComponentLink10URL: http://components.arrow.com/part/dataview/42933002S8993962N7429?src-supplier=Arrow+Electronics; ComponentLink10Description: http://components.arrow.com/part/dataview/42933002S8993962N7429?src-supplier=Arrow+Electronics; ComponentLink11URL: http://www.farnell.com/datasheets/2746647.pdf?src-supplier=Farnell; ComponentLink11Description: http://www.farnell.com/datasheets/2746647.pdf?src-supplier=Farnell; ComponentLink12URL: http://datasheet.octopart.com/C0603C475M9PACTU-KEMET-datasheet-153476653.pdf?src-supplier=Avnet; ComponentLink12Description: http://datasheet.octopart.com/C0603C475M9PACTU-KEMET-datasheet-153476653.pdf?src-supplier=Avnet; ComponentLink13URL: http://datasheet.octopart.com/C0603C475M9PACTU-KEMET-datasheet-153476653.pdf?src-supplier=Onlinecomponents.com; ComponentLink13Description: http://datasheet.octopart.com/C0603C475M9PACTU-KEMET-datasheet-153476653.pdf?src-supplier=Onlinecomponents.com; ComponentLink14URL: https://datasheet.octopart.com/C0603C475M9PACTU-Kemet-datasheet-17019119.pdf?src-supplier=Newark; ComponentLink14Description: https://datasheet.octopart.com/C0603C475M9PACTU-Kemet-datasheet-17019119.pdf?src-supplier=Newark; ComponentLink15URL: http://datasheet.octopart.com/C0603C475M9PACTU-KEMET-datasheet-153476653.pdf?src-supplier=Digi-Key; ComponentLink15Description: http://datasheet.octopart.com/C0603C475M9PACTU-KEMET-datasheet-153476653.pdf?src-supplier=Digi-Key; ComponentLink16URL: https://api.kemet.com/component-edge/download/datasheet/C0603C475M9PACTU.pdf?src-supplier=Digi-Key; ComponentLink16Description: https://api.kemet.com/component-edge/download/datasheet/C0603C475M9PACTU.pdf?src-supplier=Digi-Key; ComponentLink17URL: http://www.farnell.com/datasheets/2746647.pdf?src-supplier=Newark; ComponentLink17Description: http://www.farnell.com/datasheets/2746647.pdf?src-supplier=Newark; ComponentLink18URL: https://datasheet.octopart.com/C0603C475M9PACTU-Kemet-datasheet-62307650.pdf?src-supplier=Element14; ComponentLink18Description: https://datasheet.octopart.com/C0603C475M9PACTU-Kemet-datasheet-62307650.pdf?src-supplier=Element14; ComponentLink19URL: https://datasheet.octopart.com/C0603C475M9PACTU-KEMET-datasheet-149522171.pdf?src-supplier=Farnell; ComponentLink19Description: https://datasheet.octopart.com/C0603C475M9PACTU-KEMET-datasheet-149522171.pdf?src-supplier=Farnell; ComponentLink20URL: http://www.farnell.com/datasheets/1791935.pdf?src-supplier=Newark; ComponentLink20Description: http://www.farnell.com/datasheets/1791935.pdf?src-supplier=Newark; ComponentLink21URL: http://datasheet.octopart.com/C0603C475M9PACTU-KEMET-datasheet-153476653.pdf?src-supplier=Quest; ComponentLink21Description: http://datasheet.octopart.com/C0603C475M9PACTU-KEMET-datasheet-153476653.pdf?src-supplier=Quest; ComponentLink22URL: https://datasheet.octopart.com/C0603C475M9PACTU-KEMET-datasheet-153476653.pdf?src-supplier=Electro+Sonic; ComponentLink22Description: https://datasheet.octopart.com/C0603C475M9PACTU-KEMET-datasheet-153476653.pdf?src-supplier=Electro+Sonic; Supplier 3: Mouser; Stock 3: 21236; Pricing 3: 1=0.16, 10=0.094, 50=0.094, 100=0.055, 1000=0.034, 10000=0.022 (USD); Supplier 4: Digi-Key; Manufacturer 4: KEMET; Manufacturer Part Number 4: C0603C474K9PACTU; Stock 4: 64517; Pricing 4: 1=0.13, 10=0.094, 50=0.0534, 100=0.0443, 500=0.03104, 1000=0.02569 (USD); Supplier 5: Mouser; Manufacturer 5: KEMET; Manufacturer Part Number 5: C0603C474K9PACTU; Stock 5: 21036; Pricing 5: 1=0.14, 10=0.057, 50=0.057, 100=0.033, 1000=0.027, 10000=0.021 (USD); Supplier Part Number 5: 80-C0603C474K9P
footprint CAP_0603 (Chip Capacitor 0603, 2-Leads, Body 1.68x0.88mm, IPC Medium Density)
pins: 1, 2

## CAP_470nF_50V_10%_X7R_0805
designator C?, comment 470nF 50V
Ceramic Capacitor, Multilayer, Ceramic, 50V, 10% +Tol, 10% -Tol, X7R, 15% TC, 0.47uF, Surface Mount, 0805; Manufacturer: KEMET; Manufacturer Part Number: C0805C474K5RACTU; Multilayer: Yes; Supplier: Digi-Key; Supplier Part Number: 399-C0805C474K5RAC7800CT-ND; RoHS: Yes; Category: Ceramic Capacitors; Stock: 215288; Pricing: 1=0.28, 10=0.183, 50=0.1284, 100=0.1037, 500=0.07708, 1000=0.06745 (USD); Mounting Technology: Surface Mount; Pins: 2; Dielectric Material: Ceramic; Package Shape: Rectangular; Case/Package: 0805; Terminal Finish: Nickel; Min Operating Temperature: -55°C; Max Operating Temperature: 125°C; JESD-609 Code: e3; Value: 470nF; Capacitor Type: Ceramic; Tolerance  (fill in as +-): 10%; Package Style: SMTMeter; Packaging: Tape and Reel; Tolerance (fill in as +-): 10%; Rated DC Voltage (URdc): 50V; Temperature Characteristics Code: X7R; Termination: Wraparound; Length: 2mm; Width: 1.25mm; Height: 1mm; Reach SVHC Compliant: Yes; RoHS Compliant: Yes; ComponentLink1URL: https://datasheet.ciiva.com:443/pdfs/VipMasterIC/IC/KEME/KEME-S-A0008991654/KEME-S-A0008991654-1.pdf?src-supplier=IHS+Markit; ComponentLink1Description: https://datasheet.ciiva.com:443/pdfs/VipMasterIC/IC/KEME/KEME-S-A0008991654/KEME-S-A0008991654-1.pdf?src-supplier=IHS+Markit; ComponentLink2URL: https://datasheet.ciiva.com/7842/1851736-7842613.pdf?src-supplier=Element14; ComponentLink2Description: https://datasheet.ciiva.com/7842/1851736-7842613.pdf?src-supplier=Element14; ComponentLink3URL: https://datasheet.ciiva.com/6126/kem-c1002-x7r-smd-6126343.pdf?src-supplier=Farnell; ComponentLink3Description: https://datasheet.ciiva.com/6126/kem-c1002-x7r-smd-6126343.pdf?src-supplier=Farnell; ComponentLink4URL: https://datasheet.ciiva.com/28614/1918693-28614762.pdf?src-supplier=Element14; ComponentLink4Description: https://datasheet.ciiva.com/28614/1918693-28614762.pdf?src-supplier=Element14; ComponentLink5URL: https://datasheet.ciiva.com/28688/1851736-28688678.pdf?src-supplier=Element14; ComponentLink5Description: https://datasheet.ciiva.com/28688/1851736-28688678.pdf?src-supplier=Element14
footprint CAP_0805
pins: 1, 2

## CAP_NOT-MOUNTED_0201
designator C?, comment DNP  (no BOM)
Do Not Place this Capacitor 0201; Manufacturer: KEMET; Manufacturer Part Number: C0603C103K8RACTU; Dielectric Material: Ceramic; Capacitance: 10nF; Tolerance: 10%; Voltage Rating: 10V; Dielectric: X7R; Dissipation Factor: 5%; Case/Package: 0603; Supplier-1: Digikey; Supplier 1: Mouser; Manufacturer 1: KEMET; Manufacturer Part Number 1: C0603C103K8RACTU; RoHS: Yes; Category: Ceramic Capacitors; Stock 1: 6134; Pricing 1: 1=0.1, 10=0.034, 50=0.034, 100=0.02, 1000=0.016, 10000=0.011 (USD); Mount: Surface Mount; Case Code (Metric): 1608; Case Code (Imperial): 0603; Min Operating Temperature: -55°C; Max Operating Temperature: 125°C; Package Quantity: 1; Packaging: Tape and Reel; Voltage Rating (DC): 10V; Termination: SMD/SMT; Series: -; Construction: Flat; Length: 1.6mm; Width: 0.031inch; Height: 0.8mm; Thickness: 0.034inch; Lead Pitch: 0.7mm; Depth: 0.8mm; Reach SVHC Compliant: No; ComponentLink1URL: https://datasheet.ciiva.com/49516/1564916-49516523.pdf?src-supplier=Jameco; ComponentLink1Description: https://datasheet.ciiva.com/49516/1564916-49516523.pdf?src-supplier=Jameco; Supplier Part Number 1: 80-C0603C103K8R
footprint CAP_0201
pins: 1, 2

## CAP_NOT-MOUNTED_0402
designator C?, comment DNP  (no BOM)
Do Not Place this Capacitor 0402; Manufacturer: KEMET; Manufacturer Part Number: C0603C103K8RACTU; Dielectric Material: Ceramic; Capacitance: 10nF; Tolerance: 10%; Voltage Rating: 10V; Dielectric: X7R; Dissipation Factor: 5%; Case/Package: 0603; Supplier-1: Digikey; Supplier 1: Mouser; Manufacturer 1: KEMET; Manufacturer Part Number 1: C0603C103K8RACTU; RoHS: Yes; Category: Ceramic Capacitors; Stock 1: 6134; Pricing 1: 1=0.1, 10=0.034, 50=0.034, 100=0.02, 1000=0.016, 10000=0.011 (USD); Mount: Surface Mount; Case Code (Metric): 1608; Case Code (Imperial): 0603; Min Operating Temperature: -55°C; Max Operating Temperature: 125°C; Package Quantity: 1; Packaging: Tape and Reel; Voltage Rating (DC): 10V; Termination: SMD/SMT; Series: -; Construction: Flat; Length: 1.6mm; Width: 0.031inch; Height: 0.8mm; Thickness: 0.034inch; Lead Pitch: 0.7mm; Depth: 0.8mm; Reach SVHC Compliant: No; ComponentLink1URL: https://datasheet.ciiva.com/49516/1564916-49516523.pdf?src-supplier=Jameco; ComponentLink1Description: https://datasheet.ciiva.com/49516/1564916-49516523.pdf?src-supplier=Jameco; Supplier Part Number 1: 80-C0603C103K8R
footprint CAP_0402
pins: 1, 2

## CAP_NOT-MOUNTED_0603
designator C?, comment DNP  (no BOM)
Do Not Place this Capacitor 0603; Manufacturer: KEMET; Manufacturer Part Number: C0603C103K8RACTU; Dielectric Material: Ceramic; Capacitance: 10nF; Tolerance: 10%; Voltage Rating: 10V; Dielectric: X7R; Dissipation Factor: 5%; Case/Package: 0603; Supplier-1: Digikey; Supplier 1: Mouser; Manufacturer 1: KEMET; Manufacturer Part Number 1: C0603C103K8RACTU; RoHS: Yes; Category: Ceramic Capacitors; Stock 1: 6134; Pricing 1: 1=0.1, 10=0.034, 50=0.034, 100=0.02, 1000=0.016, 10000=0.011 (USD); Mount: Surface Mount; Case Code (Metric): 1608; Case Code (Imperial): 0603; Min Operating Temperature: -55°C; Max Operating Temperature: 125°C; Package Quantity: 1; Packaging: Tape and Reel; Voltage Rating (DC): 10V; Termination: SMD/SMT; Series: -; Construction: Flat; Length: 1.6mm; Width: 0.031inch; Height: 0.8mm; Thickness: 0.034inch; Lead Pitch: 0.7mm; Depth: 0.8mm; Reach SVHC Compliant: No; ComponentLink1URL: https://datasheet.ciiva.com/49516/1564916-49516523.pdf?src-supplier=Jameco; ComponentLink1Description: https://datasheet.ciiva.com/49516/1564916-49516523.pdf?src-supplier=Jameco; Supplier Part Number 1: 80-C0603C103K8R
footprint CAP_0603
pins: 1, 2

## CAP_NOT-MOUNTED_0805
designator C?, comment DNP  (no BOM)
Do Not Place this Capacitor 0805; Manufacturer: KEMET; Manufacturer Part Number: C0603C103K8RACTU; Dielectric Material: Ceramic; Capacitance: 10nF; Tolerance: 10%; Voltage Rating: 10V; Dielectric: X7R; Dissipation Factor: 5%; Case/Package: 0603; Supplier-1: Digikey; Supplier 1: Mouser; Manufacturer 1: KEMET; Manufacturer Part Number 1: C0603C103K8RACTU; RoHS: Yes; Category: Ceramic Capacitors; Stock 1: 6134; Pricing 1: 1=0.1, 10=0.034, 50=0.034, 100=0.02, 1000=0.016, 10000=0.011 (USD); Mount: Surface Mount; Case Code (Metric): 1608; Case Code (Imperial): 0603; Min Operating Temperature: -55°C; Max Operating Temperature: 125°C; Package Quantity: 1; Packaging: Tape and Reel; Voltage Rating (DC): 10V; Termination: SMD/SMT; Series: -; Construction: Flat; Length: 1.6mm; Width: 0.031inch; Height: 0.8mm; Thickness: 0.034inch; Lead Pitch: 0.7mm; Depth: 0.8mm; Reach SVHC Compliant: No; ComponentLink1URL: https://datasheet.ciiva.com/49516/1564916-49516523.pdf?src-supplier=Jameco; ComponentLink1Description: https://datasheet.ciiva.com/49516/1564916-49516523.pdf?src-supplier=Jameco; Supplier Part Number 1: 80-C0603C103K8R
footprint CAP_0805
pins: 1, 2

## CAP_NOT-MOUNTED_1206
designator C?, comment DNP  (no BOM)
Do Not Place this Capacitor 1206; Manufacturer: KEMET; Manufacturer Part Number: C0603C103K8RACTU; Dielectric Material: Ceramic; Capacitance: 10nF; Tolerance: 10%; Voltage Rating: 10V; Dielectric: X7R; Dissipation Factor: 5%; Case/Package: 0603; Supplier-1: Digikey; Supplier 1: Mouser; Manufacturer 1: KEMET; Manufacturer Part Number 1: C0603C103K8RACTU; RoHS: Yes; Category: Ceramic Capacitors; Stock 1: 6134; Pricing 1: 1=0.1, 10=0.034, 50=0.034, 100=0.02, 1000=0.016, 10000=0.011 (USD); Mount: Surface Mount; Case Code (Metric): 1608; Case Code (Imperial): 0603; Min Operating Temperature: -55°C; Max Operating Temperature: 125°C; Package Quantity: 1; Packaging: Tape and Reel; Voltage Rating (DC): 10V; Termination: SMD/SMT; Series: -; Construction: Flat; Length: 1.6mm; Width: 0.031inch; Height: 0.8mm; Thickness: 0.034inch; Lead Pitch: 0.7mm; Depth: 0.8mm; Reach SVHC Compliant: No; ComponentLink1URL: https://datasheet.ciiva.com/49516/1564916-49516523.pdf?src-supplier=Jameco; ComponentLink1Description: https://datasheet.ciiva.com/49516/1564916-49516523.pdf?src-supplier=Jameco; Supplier Part Number 1: 80-C0603C103K8R
footprint CAP_1206
pins: 1, 2

## CAP_NOT-MOUNTED_1210
designator C?, comment DNP  (no BOM)
Do Not Place this Capacitor 1210; Manufacturer: KEMET; Manufacturer Part Number: C0603C103K8RACTU; Dielectric Material: Ceramic; Capacitance: 10nF; Tolerance: 10%; Voltage Rating: 10V; Dielectric: X7R; Dissipation Factor: 5%; Case/Package: 0603; Supplier-1: Digikey; Supplier 1: Mouser; Manufacturer 1: KEMET; Manufacturer Part Number 1: C0603C103K8RACTU; RoHS: Yes; Category: Ceramic Capacitors; Stock 1: 6134; Pricing 1: 1=0.1, 10=0.034, 50=0.034, 100=0.02, 1000=0.016, 10000=0.011 (USD); Mount: Surface Mount; Case Code (Metric): 1608; Case Code (Imperial): 0603; Min Operating Temperature: -55°C; Max Operating Temperature: 125°C; Package Quantity: 1; Packaging: Tape and Reel; Voltage Rating (DC): 10V; Termination: SMD/SMT; Series: -; Construction: Flat; Length: 1.6mm; Width: 0.031inch; Height: 0.8mm; Thickness: 0.034inch; Lead Pitch: 0.7mm; Depth: 0.8mm; Reach SVHC Compliant: No; ComponentLink1URL: https://datasheet.ciiva.com/49516/1564916-49516523.pdf?src-supplier=Jameco; ComponentLink1Description: https://datasheet.ciiva.com/49516/1564916-49516523.pdf?src-supplier=Jameco; Supplier Part Number 1: 80-C0603C103K8R
footprint CAP_1210
pins: 1, 2

## COM_MSIM_7POS_CUI
designator J?, comment MSIM-1-A
Memory Card Connectors 7 Positions, Push In, Auto Eject Out, SMT, 1.37 mm Height Above Board,; ComponentLink1Description: LCSC Link; ComponentLink1URL: https://www.lcsc.com/product-detail/SIM-Card-Connectors_SHOU-HAN-MICRO-SIM-7P-H1-35_C7529381.html
footprint CON_MSIM_7POS (MSIM-1-A)
pins: 1 VCC, 2 RST, 3 CLK, 5 GND, 6 VPP, 7 I/O, 8 CD, 9 GND

## CON_ED_2_1mm_SMD Molex - 202396-0207
designator J?, comment 202396-0207  (value not drawn)
Conn Shrouded Header (4 Sides) HDR 2 POS 1mm Solder RA Side Entry SMD Pico-Clasp™ T/R; Manufacturer: Molex; Supplier 1: Mouser; Manufacturer Part Number: 202396-0207; RoHS: No; Category: Headers and Wire Housings; Stock 1: 10886; Pricing 1: 1=0.97, 10=0.804, 50=0.804, 100=0.664, 1000=0.63, 10000=0.435 (USD); ComponentLink1URL: http://datasheet.octopart.com/2023960207-Molex-datasheet-147952241.pdf?src-supplier=Avnet; ComponentLink1Description: http://datasheet.octopart.com/2023960207-Molex-datasheet-147952241.pdf?src-supplier=Avnet; ComponentLink2URL: http://datasheet.octopart.com/2023960207-Molex-datasheet-147952241.pdf?src-supplier=Farnell; ComponentLink2Description: http://datasheet.octopart.com/2023960207-Molex-datasheet-147952241.pdf?src-supplier=Farnell; ComponentLink3URL: http://datasheet.octopart.com/2023960207-Molex-datasheet-147952241.pdf?src-supplier=Digi-Key; ComponentLink3Description: http://datasheet.octopart.com/2023960207-Molex-datasheet-147952241.pdf?src-supplier=Digi-Key; ComponentLink4URL: https://www.molex.com/pdm_docs/sd/2023960207_sd.pdf?src-supplier=Digi-Key; ComponentLink4Description: https://www.molex.com/pdm_docs/sd/2023960207_sd.pdf?src-supplier=Digi-Key; ComponentLink5URL: http://datasheet.octopart.com/2023960207-Molex-datasheet-147952241.pdf?src-supplier=Arrow+Electronics; ComponentLink5Description: http://datasheet.octopart.com/2023960207-Molex-datasheet-147952241.pdf?src-supplier=Arrow+Electronics; ComponentLink6URL: http://datasheet.octopart.com/2023960207-Molex-datasheet-147952241.pdf?src-supplier=Newark; ComponentLink6Description: http://datasheet.octopart.com/2023960207-Molex-datasheet-147952241.pdf?src-supplier=Newark; ComponentLink7URL: https://datasheet.octopart.com/202396-0207-Molex-datasheet-134623761.pdf?src-supplier=TME; ComponentLink7Description: https://datasheet.octopart.com/202396-0207-Molex-datasheet-134623761.pdf?src-supplier=TME; ComponentLink8URL: http://datasheet.octopart.com/2023960207-Molex-datasheet-147952241.pdf?src-supplier=TTI; ComponentLink8Description: http://datasheet.octopart.com/2023960207-Molex-datasheet-147952241.pdf?src-supplier=TTI; ComponentLink9URL: http://datasheet.octopart.com/2023960207-Molex-datasheet-147952241.pdf?src-supplier=Electro+Sonic; ComponentLink9Description: http://datasheet.octopart.com/2023960207-Molex-datasheet-147952241.pdf?src-supplier=Electro+Sonic; ComponentLink10URL: https://datasheet.octopart.com/202396-0207-Molex-datasheet-154746674.pdf?src-supplier=Master+Electronics; ComponentLink10Description: https://datasheet.octopart.com/202396-0207-Molex-datasheet-154746674.pdf?src-supplier=Master+Electronics; Supplier 2: Digi-Key; Manufacturer 2: Molex; Manufacturer Part Number 2: 202396-0207; Stock 2: 70949; Pricing 2: 1=0.97, 10=0.804, 100=0.6698 (USD); Supplier Part Number 2: WM26783CT-ND
footprint CON_ED_2Pos_1mm_SMD_Molex 202396-207
pins: 1 A, 2 B

## CON_ED_3pos_TH Phoenix Contact 1757488
designator J?  (value not drawn)
Terminal Block, Header, 3Pos, R/a, Th Rohs Compliant: Yes; Manufacturer: Phoenix Contact; Manufacturer Part Number: 1757488; Supplier 1: Digi-Key; RoHS: Yes; Category: Terminal Blocks; Stock 1: 1964; Pricing 1: 1=1.08, 10=1.031, 50=0.9864, 100=0.9596, 250=0.8968, 500=0.82508, 1000=0.76229, 2500=0.72864 (USD); ComponentLink1URL: https://datasheet.ciiva.com/16096/1757488-16096446.pdf?src-supplier=Onlinecomponents.com; ComponentLink1Description: https://datasheet.ciiva.com/16096/1757488-16096446.pdf?src-supplier=Onlinecomponents.com; ComponentLink2URL: https://datasheet.ciiva.com/15197/getdatasheetpartid-198276-15197344.pdf?src-supplier=Verical; ComponentLink2Description: https://datasheet.ciiva.com/15197/getdatasheetpartid-198276-15197344.pdf?src-supplier=Verical; ComponentLink3URL: https://datasheet.ciiva.com/795/1757488-795423.pdf?src-supplier=Digi-Key; ComponentLink3Description: https://datasheet.ciiva.com/795/1757488-795423.pdf?src-supplier=Digi-Key; ComponentLink4URL: https://datasheet.ciiva.com/29208/566851-da-01-en-grundgehaeuse-1757488-250-st-29208080.pdf?src-supplier=Conrad; ComponentLink4Description: https://datasheet.ciiva.com/29208/566851-da-01-en-grundgehaeuse-1757488-250-st-29208080.pdf?src-supplier=Conrad; Supplier 2: Digi-Key; Manufacturer 2: Phoenix Contact; Manufacturer Part Number 2: 1757488; Stock 2: 1636; Pricing 2: 1=1.08, 10=1.031, 50=0.9864, 100=0.9596, 250=0.8968, 500=0.82508, 1000=0.76229, 2500=0.72864 (USD); Supplier Part Number 2: 277-1118-ND
footprint CON_ED_3Pos_TH Phoenix Contact 1757488
pins: 1 13, 2 14, 3 15